# Altium schematic symbol library Power-BMIC-PW4056HH.SchLib: 1 symbol
Pins are listed as number, name and electrical type; pins without a type are passive.

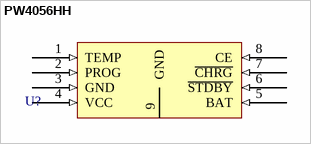
[diagram p0: symbol PW4056HH]

## PW4056HH
designator U?
pins: 1 TEMP (in), 2 PROG (in), 3 GND (in), 4 VCC (in), 5 BAT (in), 6 ~{STDBY} (in), 7 ~{CHRG} (in), 8 CE (in), 9 GND